# EAGLE library part AXT524124(LI-LBCM3M1) (library biomimetic)
Panasonic AXT524124 connector for LI-LBCM3M1 3MP camera module
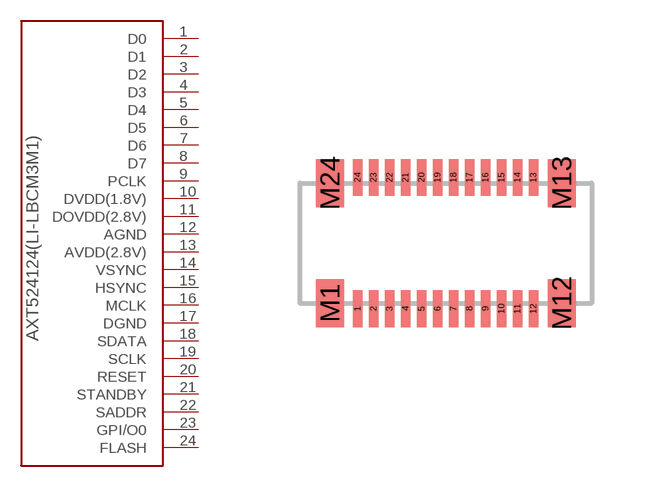
[diagram p14: symbol with the pads of AXT524124; footprint AXT524124]

Designator prefix -

## AXT524124(LI-LBCM3M1)  [AXT524124]
1  D0
2  D1
3  D2
4  D3
5  D4
6  D5
7  D6
8  D7
9  PCLK
10  DVDD(1.8V)
11  DOVDD(2.8V)
12  AGND
13  AVDD(2.8V)
14  VSYNC
15  HSYNC
16  MCLK
17  DGND
18  SDATA
19  SCLK
20  RESET
21  STANDBY
22  SADDR
23  GPI/O0
24  FLASH

## Footprint AXT524124 (pad centres in mm)
smd 0.23 x 0.92: 1 -2.2,-1.64; 2 -1.8,-1.64; 3 -1.4,-1.64; 4 -1,-1.64; 5 -0.6,-1.64; 6 -0.2,-1.64; 7 0.2,-1.64; 8 0.6,-1.64; 9 1,-1.64; 10 1.4,-1.64; 11 1.8,-1.64; 12 2.2,-1.64; 13 2.2,1.64; 14 1.8,1.64; 15 1.4,1.64; 16 1,1.64; 17 0.6,1.64; 18 0.2,1.64; 19 -0.2,1.64; 20 -0.6,1.64; 21 -1,1.64; 22 -1.4,1.64; 23 -1.8,1.64; 24 -2.2,1.64
smd 0.7 x 1.2: M1 -2.9,-1.5; M12 2.9,-1.5; M13 2.9,1.5; M24 -2.9,1.5